# EAGLE library part RT1A060AP (library lz-shield)
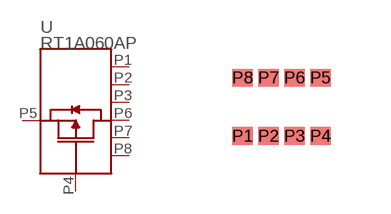
[diagram p15: symbol with the pads of TSST8; footprint TSST8]

Designator prefix -

## RT1A060AP  [TSST8]
P1  D1  out
P2  D2  out
P3  D3  out
P4  G  in
P5  S  in
P6  D4  out
P7  D5  out
P8  D6  out

## Footprint TSST8 (pad centres in mm)
smd 0.52 x 0.44: P1 -0.975,-0.73; P2 -0.325,-0.73; P3 0.325,-0.73; P4 0.975,-0.73; P5 0.975,0.73; P6 0.325,0.73; P7 -0.325,0.73; P8 -0.975,0.73